# EAGLE library part AD5360 (library harrison)
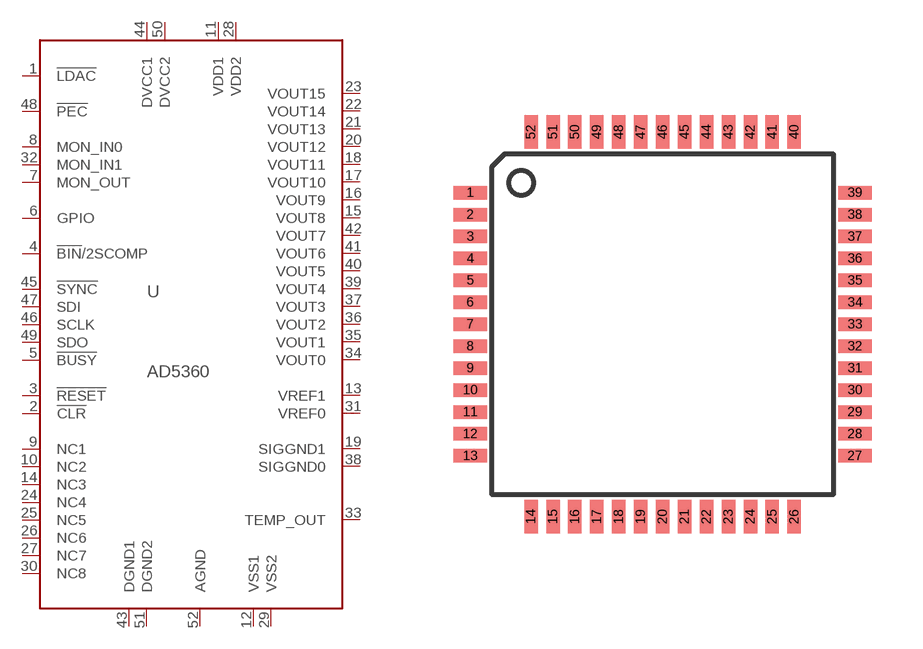
[diagram p42: symbol with the pads of QFP52_10_X_10; footprint QFP52_10_X_10]

Designator prefix U

## AD5360-QFP  [QFP52_10_X_10]
1  !LDAC!  in
2  !CLR!  in
3  !RESET!  in
4  !BIN!/2SCOMP  in
5  !BUSY!
6  GPIO
7  MON_OUT  out
8  MON_IN0  in
9  NC1  nc
10  NC2  nc
11  VDD1  pwr
12  VSS1  pwr
13  VREF1  in
14  NC3  nc
15  VOUT8  out
16  VOUT9  out
17  VOUT10  out
18  VOUT11  out
19  SIGGND1  pwr
20  VOUT12  out
21  VOUT13  out
22  VOUT14  out
23  VOUT15  out
24  NC4  nc
25  NC5  nc
26  NC6  nc
27  NC7  nc
28  VDD2  pwr
29  VSS2  pwr
30  NC8  nc
31  VREF0  in
32  MON_IN1  in
33  TEMP_OUT  out
34  VOUT0  out
35  VOUT1  out
36  VOUT2  out
37  VOUT3  out
38  SIGGND0  pwr
39  VOUT4  out
40  VOUT5  out
41  VOUT6  out
42  VOUT7  out
43  DGND1  pwr
44  DVCC1  pwr
45  !SYNC!  in
46  SCLK  in
47  SDI  in
48  !PEC!  out
49  SDO  out
50  DVCC2  pwr
51  DGND2  pwr
52  AGND  pwr

## Footprint QFP52_10_X_10 (pad centres in mm)
smd 1 x 0.4: 1 -5.7,3.9; 2 -5.7,3.25; 3 -5.7,2.6; 4 -5.7,1.95; 5 -5.7,1.3; 6 -5.7,0.65; 7 -5.7,0; 8 -5.7,-0.65; 9 -5.7,-1.3; 10 -5.7,-1.95; 11 -5.7,-2.6; 12 -5.7,-3.25; 13 -5.7,-3.9; 27 5.7,-3.9; 28 5.7,-3.25; 29 5.7,-2.6; 30 5.7,-1.95; 31 5.7,-1.3; 32 5.7,-0.65; 33 5.7,0; 34 5.7,0.65; 35 5.7,1.3; 36 5.7,1.95; 37 5.7,2.6; 38 5.7,3.25; 39 5.7,3.9
smd 0.4 x 1: 14 -3.9,-5.7; 15 -3.25,-5.7; 16 -2.6,-5.7; 17 -1.95,-5.7; 18 -1.3,-5.7; 19 -0.65,-5.7; 20 0,-5.7; 21 0.65,-5.7; 22 1.3,-5.7; 23 1.95,-5.7; 24 2.6,-5.7; 25 3.25,-5.7; 26 3.9,-5.7; 40 3.9,5.7; 41 3.25,5.7; 42 2.6,5.7; 43 1.95,5.7; 44 1.3,5.7; 45 0.65,5.7; 46 0,5.7; 47 -0.65,5.7; 48 -1.3,5.7; 49 -1.95,5.7; 50 -2.6,5.7; 51 -3.25,5.7; 52 -3.9,5.7